# Altium integrated library SS12D07VG4 087.IntLib: 1 symbol
Pins are listed as number, name and electrical type; pins without a type are passive.

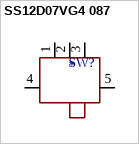
[diagram p0: symbol SS12D07VG4 087]

## SS12D07VG4 087
designator SW?  (value not drawn)
Slide Switches. SS12D07VG4 087; Manufacturer: SHOU HAN(); Component Type: Switches; Design Item ID: SS12D07VG4 087; Value: *; JLCPCB Part #: C2939726; Manufacturer Part Number: SS12D07VG4 087
footprint SS12D07VG4 087 (SW-TH_SS12D07VG4)
pins: 1, 2, 3, 4, 5